# EAGLE library part CY8C285XX (library CypressPSoC_0.30)
CY8C28513, CY8C28533, and CY8C28545 TQFP 44-Pin PSoC Devices
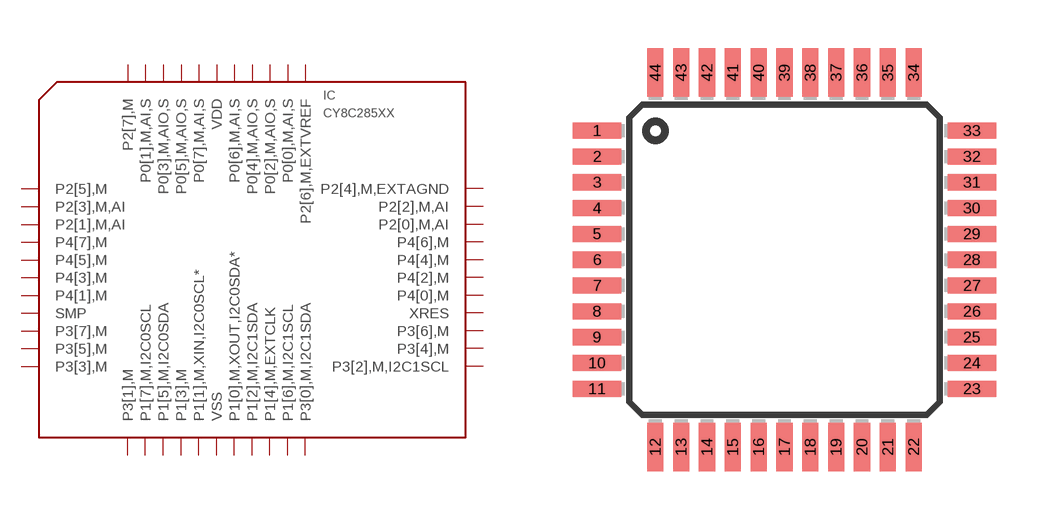
[diagram p16: symbol with the pads of TQFP44; footprint TQFP44]

Designator prefix IC

## CY8C285XX_TQFP44  [TQFP44]
1  P2[5],M
2  P2[3],M,AI
3  P2[1],M,AI
4  P4[7],M
5  P4[5],M
6  P4[3],M
7  P4[1],M
8  SMP  pwr
9  P3[7],M
10  P3[5],M
11  P3[3],M
12  P3[1],M
13  P1[7],M,I2C0SCL
14  P1[5],M,I2C0SDA
15  P1[3],M
16  P1[1],M,XIN,I2C0SCL*
17  VSS  pwr
18  P1[0],M,XOUT,I2C0SDA*
19  P1[2],M,I2C1SDA
20  P1[4],M,EXTCLK
21  P1[6],M,I2C1SCL
22  P3[0],M,I2C1SDA
23  P3[2],M,I2C1SCL
24  P3[4],M
25  P3[6],M
26  XRES
27  P4[0],M
28  P4[2],M
29  P4[4],M
30  P4[6],M
31  P2[0],M,AI
32  P2[2],M,AI
33  P2[4],M,EXTAGND
34  P2[6],M,EXTVREF
35  P0[0],M,AI,S
36  P0[2],M,AIO,S
37  P0[4],M,AIO,S
38  P0[6],M,AI,S
39  VDD  pwr
40  P0[7],M,AI,S
41  P0[5],M,AIO,S
42  P0[3],M,AIO,S
43  P0[1],M,AI,S
44  P2[7],M

## Footprint TQFP44 (pad centres in mm)
Thin Quad Flat Pack package type TQ
smd 1.5 x 0.5: 1 -5.8,4; 2 -5.8,3.2; 3 -5.8,2.4; 4 -5.8,1.6; 5 -5.8,0.8; 6 -5.8,0; 7 -5.8,-0.8; 8 -5.8,-1.6; 9 -5.8,-2.4; 10 -5.8,-3.2; 11 -5.8,-4; 23 5.8,-4; 24 5.8,-3.2; 25 5.8,-2.4; 26 5.8,-1.6; 27 5.8,-0.8; 28 5.8,0; 29 5.8,0.8; 30 5.8,1.6; 31 5.8,2.4; 32 5.8,3.2; 33 5.8,4
smd 0.5 x 1.5: 12 -4,-5.8; 13 -3.2,-5.8; 14 -2.4,-5.8; 15 -1.6,-5.8; 16 -0.8,-5.8; 17 0,-5.8; 18 0.8,-5.8; 19 1.6,-5.8; 20 2.4,-5.8; 21 3.2,-5.8; 22 4,-5.8; 34 4,5.8; 35 3.2,5.8; 36 2.4,5.8; 37 1.6,5.8; 38 0.8,5.8; 39 0,5.8; 40 -0.8,5.8; 41 -1.6,5.8; 42 -2.4,5.8; 43 -3.2,5.8; 44 -4,5.8